# Altium schematic symbol library AXP2101.SchLib: 1 symbol
Pins are listed as number, name and electrical type; pins without a type are passive.

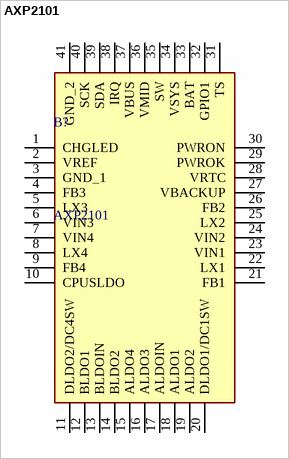
[diagram p0: symbol AXP2101]

## AXP2101
designator B?
OEM/CM QUOTES ONLY | NO BROKERS; Manufacturer_Name: Allwinner Technology; Geometry.Height: 0.8mm; Manufacturer_Part_Number: AXP2101; Mouser Part Number: *; Mouser Price/Stock: *; Arrow Part Number: *; Arrow Price/Stock: *; Datasheet Link: https://cdn-3a4dd4ab.ozdisan.com/ETicaret_Dosya/624955_173892.pdf
footprint QFN40P500X500X80-41N-D
pins: 1 CHGLED, 2 VREF, 3 GND_1, 4 FB3, 5 LX3, 6 VIN3, 7 VIN4, 8 LX4, 9 FB4, 10 CPUSLDO, 11 DLDO2/DC4SW, 12 BLDO1, 13 BLDOIN, 14 BLDO2, 15 ALDO4, 16 ALDO3, 17 ALDOIN, 18 ALDO1, 19 ALDO2, 20 DLDO1/DC1SW, 21 FB1, 22 LX1, 23 VIN1, 24 VIN2, 25 LX2, 26 FB2, 27 VBACKUP, 28 VRTC, 29 PWROK, 30 PWRON, 31 TS, 32 GPIO1, 33 BAT, 34 VSYS, 35 SW, 36 VMID, 37 VBUS, 38 IRQ, 39 SDA, 40 SCK, 41 GND_2